# Altium schematic symbol library PCEIOT.SCHLIB: 87 symbols (part 1 of 2)
Pins are listed as number, name and electrical type; pins without a type are passive.

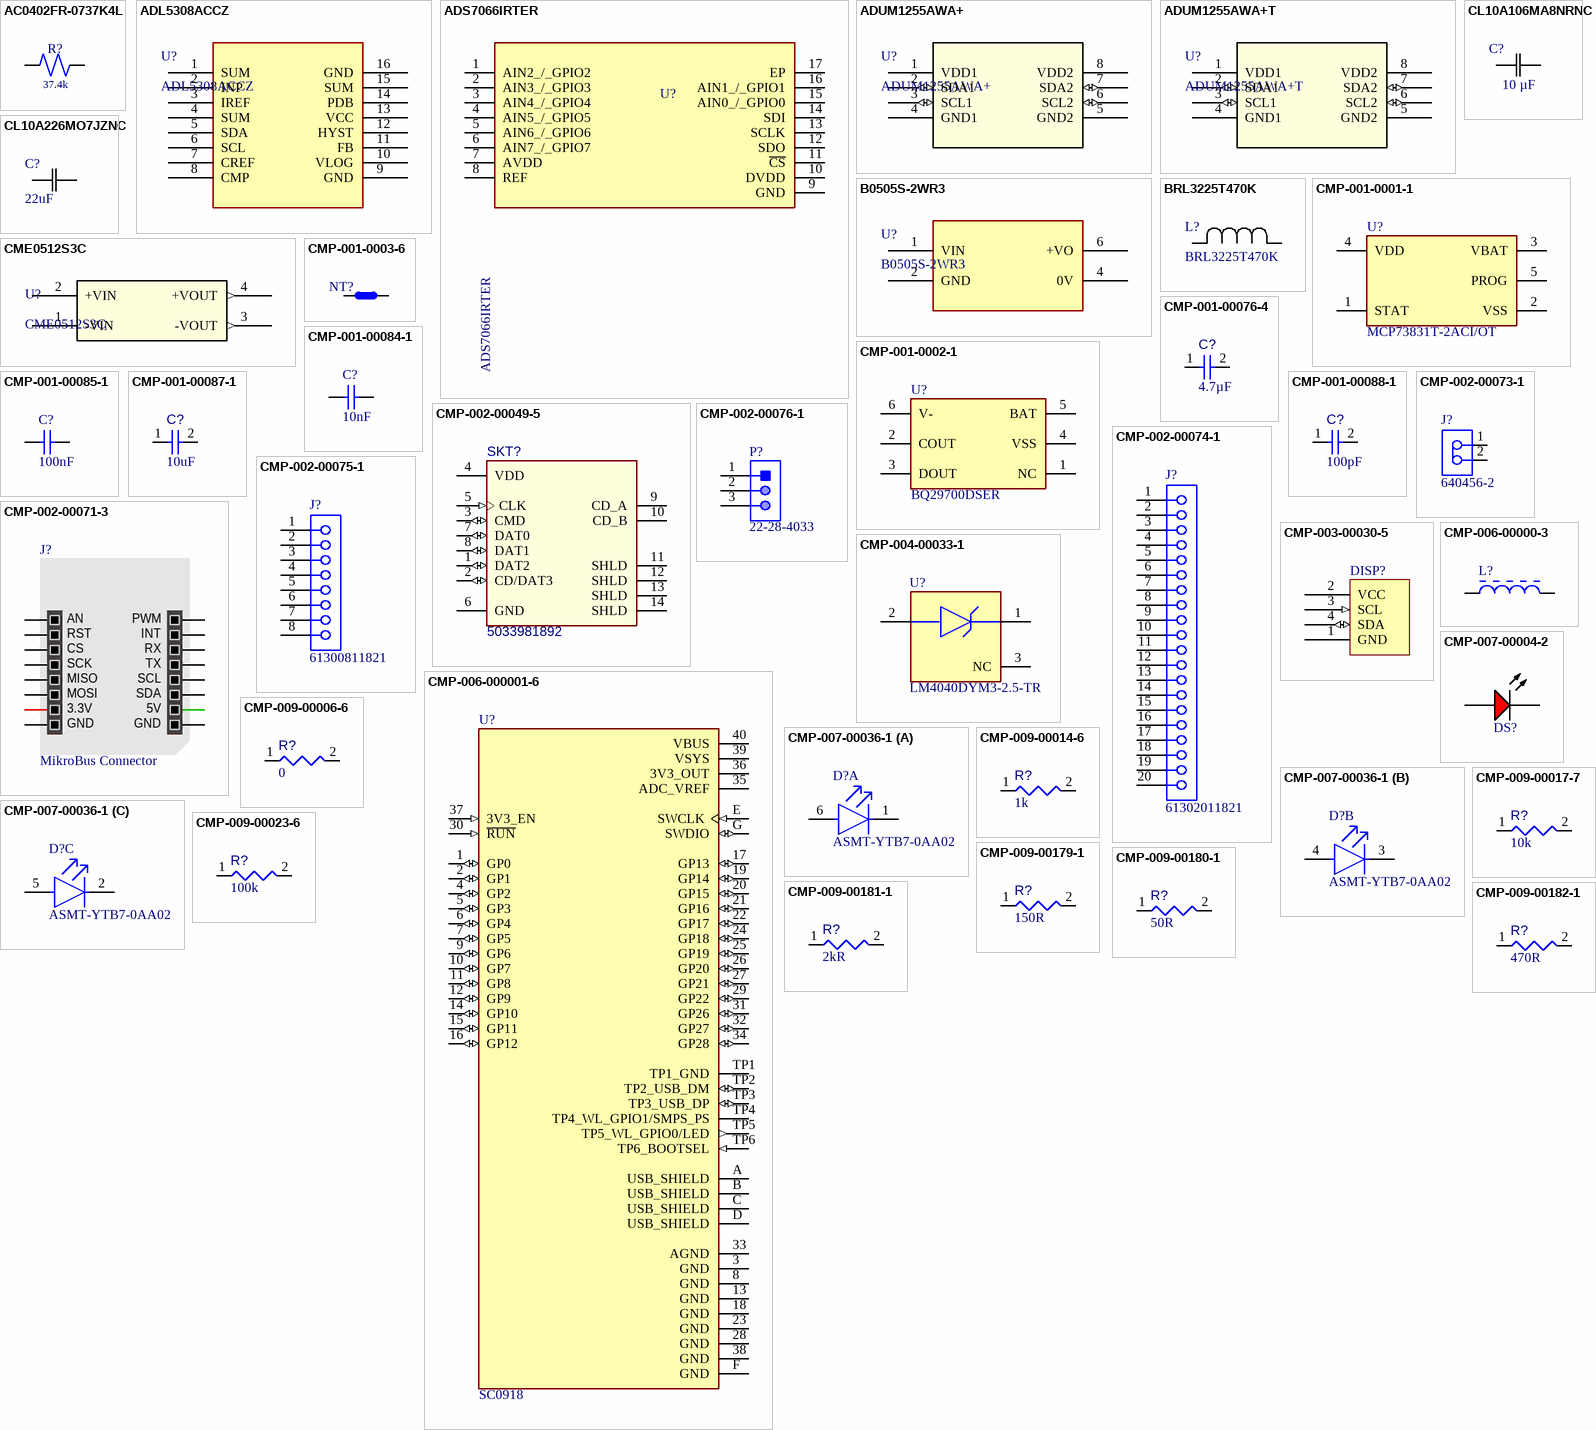
[diagram p0: symbols AC0402FR-0737K4L to CMP-009-00182-1]

## AC0402FR-0737K4L
designator R?  value 37.4k  (hidden comment: AC0402FR-0737K4L)
37.4 kOhms ±1% 0.063W, 1/16W Chip Resistor 0402 (1005 Metric) Automotive AEC-Q200, Moisture Resistant Thick Film; Manufacturer_Name: Yageo; Package: None; Price: None; Manufacturer_Part_Number: AC0402FR-0737K4L; Availability: Unavailable; Supplier 1: Digikey; Supplier Part Number 1: 13-AC0402FR-0737K4LCT-ND; Datasheet Link: https://yageogroup.com/content/datasheet/asset/file/PYU-AC_51_ROHS_L
footprint RC0402N_YAG
pins: 1, 2

## ADL5308ACCZ
designator U?
Logarithmic Converter, 105Deg C, Lga-Ep Rohs Compliant: Yes |Analog Devices, Inc. ADL5308ACCZ; Supplier: DigiKey; Supplier Part Number: 505-ADL5308ACCZ-ND; Manufacturer_Name: Analog Devices; Manufacturer_Part_Number: ADL5308ACCZ; Category: Integrated Circuits (ICs); ComponentLink1URL: https://octopart.com:443/opatz8j6/c1?t=RA9GQZinOd29-lgehR1mMjPVps_pwNRaRgVV1YHzAIV5tl_XZCUSSAHitgBUBAYOkyHWZwhmuKnJMJd5RxR1VqE6m3xnviegrgL6shNBcrpF4LfPbYQ25RAGHFA1T9s0JOT-tl-QhPVPfLuNoqTz_6GGuiJfIxRC0S7r0DYLo04TjJESfYEQgeF8hwJXvZVADboypZr_g-Ea1XOnqBF-rgke93XuIMELyUETblR1X_UOadx82_PQ_RlLZBBqxzR00efRp-5niCJZslCBmJMmtGL_WYk9XjRWZNLGIjLbjTB1vQWuYu6Ttro&src-supplier=Analog+Devices; ComponentLink1Description: https://octopart.com:443/opatz8j6/c1?t=RA9GQZinOd29-lgehR1mMjPVps_pwNRaRgVV1YHzAIV5tl_XZCUSSAHitgBUBAYOkyHWZwhmuKnJMJd5RxR1VqE6m3xnviegrgL6shNBcrpF4LfPbYQ25RAGHFA1T9s0JOT-tl-QhPVPfLuNoqTz_6GGuiJfIxRC0S7r0DYLo04TjJESfYEQgeF8hwJXvZVADboypZr_g-Ea1XOnqBF-rgke93XuIMELyUETblR1X_UOadx82_PQ_RlLZBBqxzR00efRp-5niCJZslCBmJMmtGL_WYk9XjRWZNLGIjLbjTB1vQWuYu6Ttro&src-supplier=Analog+Devices; ComponentLink2URL: http://sigma.octopart.com:80/conflict_mineral_statement/Analog-Devices-company-33.pdf?src-supplier=Compliance+Statements; ComponentLink2Description: http://sigma.octopart.com:80/conflict_mineral_statement/Analog-Devices-company-33.pdf?src-supplier=Compliance+Statements; ComponentLink3URL: https://octopart.com:443/opatz8j6/c1?t=vRyEE9f1knuZsXfZ1EXV0igJkx_-mJPvDe2PRj94G0bMKfSINrZLJy9UxvHag1Ev7-JZTv2yES3irMYFchBWTpWzSwFH9zvLS0b9JOrPs9Pp2SMp_5VkKg4D-b9XM9N4Wk1jNVgkSgkhW8YH7ZyvkiIcKE_oeD_Hqil2BcqMABFddqLYAoPEQj49TJ_q7pMpzWSP-EVr2GWpI1kmAhJOGILngaZVyGxqQjwZ-ZoOI0z0mJCfXwlyMjB28ReNlNurs-8EToiXecBFaJGtKdUbF4KCBm4bpE5gucx16B8aD2Bl3eu5--byB1E&src-supplier=Compliance+Statements; ComponentLink3Description: https://octopart.com:443/opatz8j6/c1?t=vRyEE9f1knuZsXfZ1EXV0igJkx_-mJPvDe2PRj94G0bMKfSINrZLJy9UxvHag1Ev7-JZTv2yES3irMYFchBWTpWzSwFH9zvLS0b9JOrPs9Pp2SMp_5VkKg4D-b9XM9N4Wk1jNVgkSgkhW8YH7ZyvkiIcKE_oeD_Hqil2BcqMABFddqLYAoPEQj49TJ_q7pMpzWSP-EVr2GWpI1kmAhJOGILngaZVyGxqQjwZ-ZoOI0z0mJCfXwlyMjB28ReNlNurs-8EToiXecBFaJGtKdUbF4KCBm4bpE5gucx16B8aD2Bl3eu5--byB1E&src-supplier=Compliance+Statements; Supplier 1: DigiKey; Supplier Part Number 1: 505-ADL5308ACCZ-ND; Datasheet Link: https://www.analog.com/media/en/technical-documentation/data-sheets/adl5308.pdf; Value: ADL5308ACCZ
footprint CC-14-4_ADI
pins: 1 SUM, 2 INP, 3 IREF, 4 SUM, 5 SDA, 6 SCL, 7 CREF, 8 CMP, 9 GND, 10 VLOG, 11 FB, 12 HYST, 13 VCC, 14 PDB, 15 SUM, 16 GND

## ADS7066IRTER
designator U?
Analog to Digital Converters - ADC Eight-channel, 250-kSPS, 16-bit analog-to-digital converter with internal reference, GPIOs and SPI 16-WQFN -40 to 125; Manufacturer_Name: Texas Instruments; Geometry.Height: 0.8mm; Manufacturer_Part_Number: ADS7066IRTER; Mouser Part Number: 595-ADS7066IRTER; Mouser Price/Stock: https://www.mouser.co.uk/ProductDetail/Texas-Instruments/ADS7066IRTER?qs=ST9lo4GX8V1NXvZuWWBhPA%3D%3D; Arrow Part Number: ADS7066IRTER; Arrow Price/Stock: https://www.arrow.com/en/products/ads7066irter/texas-instruments.html?utm_currency=USD&region=nac; Datasheet Link: https://www.ti.com/lit/ds/symlink/ads7066.pdf?ts=1708383444470&ref_url=https%253A%252F%252Fwww.ti.com%252Fproduct%252FADS7066%253Futm_source%253Dgoogle%2526utm_medium%253Dcpc%2526utm_campaign%253Dasc-null-null-GPN_EN-cpc-pf-google-wwe%2526utm_content%253D; Supplier 1: Digikey; Supplier Part Number 1: 296-ADS7066IRTERCT-ND; Value: ADS7066IRTER
footprint QFN50P300X300X80-17N-D
pins: 1 AIN2_/_GPIO2, 2 AIN3_/_GPIO3, 3 AIN4_/_GPIO4, 4 AIN5_/_GPIO5, 5 AIN6_/_GPIO6, 6 AIN7_/_GPIO7, 7 AVDD, 8 REF, 9 GND, 10 DVDD, 11 ~{CS}, 12 SDO, 13 SCLK, 14 SDI, 15 AIN0_/_GPIO0, 16 AIN1_/_GPIO1, 17 EP

## ADUM1255AWA+
designator U?
I2C Isolator with Unidirectional SCL, Idle-bus Hotswap and Low VOL; Manufacturer_Name: Analog Devices Inc; Copyright: Copyright (C) 2025 Ultra Librarian. All rights reserved.; Manufacturer_Part_Number: ADUM1255AWA+; RefDes: RefDes; Type: Type
footprint 21-100415_ADI
pins: 1 VDD1 (power), 2 SDA1 (io), 3 SCL1 (io), 4 GND1 (power), 5 GND2 (power), 6 SCL2 (io), 7 SDA2 (io), 8 VDD2 (power)

## ADUM1255AWA+T
designator U?
I2C Isolator with Unidirectional SCL, Idle-bus Hotswap and Low VOL; Manufacturer_Name: Analog Devices Inc; Copyright: Copyright (C) 2025 Ultra Librarian. All rights reserved.; Manufacturer_Part_Number: ADUM1255AWA+T; RefDes: RefDes; Type: Type
footprint 21-100415_ADI
pins: 1 VDD1 (power), 2 SDA1 (io), 3 SCL1 (io), 4 GND1 (power), 5 GND2 (power), 6 SCL2 (io), 7 SDA2 (io), 8 VDD2 (power)

## B0505S-2WR3
designator U?
Isolated Module DC DC Converter 1 Output 5V 400mA 4.5V - 5.5V Input; Manufacturer_Name: MORNSUN; Type: DC DC Converters; Copyright: Copyright (C) 2026 Ultra Librarian. All rights reserved.; Manufacturer_Part_Number: B0505S-2WR3; RefDes: RefDes; Supplier 1: Digikey; Supplier Part Number 1: 2725-B0505S-2WR3-ND; Value: B0505S-2WR3; Datasheet Link: https://www.mornsun-power.com/html/pdf/B0505S-2WR3.html
footprint B_S-2WR2_MNS
pins: 1 VIN (power), 2 GND (power), 4 0V, 6 +VO (power)

## BRL3225T470K
designator L?
47 µH Semi-Shielded Drum Core, Wirewound Inductor 390 mA 1.2Ohm Max 1210 (3225 Metric); Manufacturer_Name: TAIYO YUDEN; Value: 47uF; Copyright: Copyright (C) 2025 Ultra Librarian. All rights reserved.; Manufacturer_Part_Number: BRL3225T470K; Supplier 1: DigiKey; Supplier Part Number 1: 587-2169-1-ND; Datasheet Link: https://mm.digikey.com/Volume0/opasdata/d220001/medias/docus/610/BRL3225T470K_SS.pdf
footprint IND_TAIYO_BRL3225_TAY
pins: 1, 2

## CL10A106MA8NRNC
designator C?  value 10 µF  (hidden comment: CL10A106MA8NRNC)
10 µF ±20% 25V Ceramic Capacitor X5R 0603 (1608 Metric); Manufacturer_Name: Samsung; Copyright: Copyright (C) 2025 Ultra Librarian. All rights reserved.; Manufacturer_Part_Number: CL10A106MA8NRNC; Supplier 1: DigiKey; Supplier Part Number 1: 1276-1869-1-ND; Datasheet Link: https://mm.digikey.com/Volume0/opasdata/d220001/medias/docus/658/CL10A106MA8NRNC_Spec.pdf
footprint CAPC1608X06N (Chip Capacitor, 2-Leads, Body 1,6x0,8mm (0603), IPC Medium Density)
pins: 1, 2

## CL10A226MO7JZNC
designator C?  value 22uF  (hidden comment: CL10A226MO7JZNC)
22 µF ±20% 16V Ceramic Capacitor X5R 0603 (1608 Metric); Manufacturer_Name: Samsung; Copyright: Copyright (C) 2026 Ultra Librarian. All rights reserved.; Manufacturer_Part_Number: CL10A226MO7JZNC; Supplier 1: DigiKey; Supplier Part Number 1: 1276-7076-1-ND; Datasheet Link: https://mm.digikey.com/Volume0/opasdata/d220001/medias/docus/2139/CL10A226MO7JZNC_Spec.pdf
footprint CAPC1608X06N (Chip Capacitor, 2-Leads, Body 1,6x0,8mm (0603), IPC Medium Density)
pins: 1, 2

## CME0512S3C
designator U?
No Description Available; Manufacturer_Name: Murata; Copyright: Copyright (C) 2026 Ultra Librarian. All rights reserved.; Manufacturer_Part_Number: CME0512S3C; RefDes: RefDes; Type: Type
footprint CME_SC_MUR
pins: 1 -VIN (power), 2 +VIN (power), 3 -VOUT (out), 4 +VOUT (out)

## CMP-001-0001-1
designator U?, comment MCP73831T-2ACI/OT
MCP73831 Series Single-Cell Li-Ion/Li-Polymer Battery Charge Controller SOT-23-5; Manufacturer: Microchip; Output Voltage: 4.2V; Number of Channels: 1; Fault Protection: Over Voltage; Min Supply Voltage: 3.75V; Max Supply Voltage: 6V; Max Power Dissipation: 1.54W; Output Current: 500mA; Voltage Rating: 4.534V; Drain to Source Resistance: 350mR; Min Output Voltage: 4.168V; Max Output Voltage: 4.5V; Mounting Technology: Surface Mount; Number of Outputs: 1; RoHS Compliant: Yes; Weight: 0.00709oz; Length: 3.1mm; Max Operating Temperature: 85°C; Series: -; Case/Package: SOT-23; Radiation Hardening: No; Pins: 5; Packaging: Tape and Reel; Lead Free: Lead Free; Number of Cells: 1; Width: 1.8mm; Height: 1.3mm; Max Charge Current: 500mA; Battery Pack Voltage: 4.2V; Reach SVHC Compliant: No; Termination: SMD/SMT; Min Operating Temperature: -40°C; Manufacturer Part Number: MCP73831T-2ACI/OT; Component Type: Batteries
footprint FP-C04-091-OT-MFG
footprint FP-C04-091-OT-IPC_A
pins: 1 STAT, 2 VSS (power), 3 VBAT (power), 4 VDD (power), 5 PROG

## CMP-001-0002-1
designator U?, comment BQ29700DSER
Li-Ion/Li Polymer Advanced Single-Cell Battery Protector IC Family 6-WSON -40 to 85; Manufacturer: Texas Instruments; Fault Protection: Over Current,Short Circuit,Over/Under Voltage; Operating Supply Voltage: 8V; Number of Cells: 1; Case/Package: WFDFN; Lead Free: Lead Free; Pins: 6; Height: 800um; Packaging: Tape and Reel; Max Operating Temperature: 85°C; Weight: 0.000342oz; Mounting Technology: Surface Mount; Series: -; Contact Plating: Gold; Thickness: 750um; RoHS Compliant: Yes; Package Quantity: 3000; Width: 1.5mm; Length: 1.5mm; Min Operating Temperature: -40°C; Manufacturer Part Number: BQ29700DSER; Component Type: Batteries
footprint FP-DSE0006A-MFG
footprint FP-DSE0006A-IPC_A
footprint FP-DSE0006A-IPC_B
footprint FP-DSE0006A-IPC_C
pins: 1 NC, 2 COUT, 3 DOUT, 4 VSS (power), 5 BAT (power), 6 V-

## CMP-001-0003-6
designator NT?, comment Net Tie  (value not drawn)  (net tie, no BOM)
Net Tie 0.3mm; Component Type: Miscellaneous
footprint New footprint 1
footprint Net Tie-Footprint-1
pins: 1, 2

## CMP-001-00076-4
designator C?, comment value 4.7µF  (hidden comment: Capacitor 4.7µF +/-20% 10V 0603)
Chip Capacitor, 4.7µF +/-20%, 10V, 0603, Thickness 1 mm; Manufacturer: Kyocera AVX; Manufacturer Part Number: 0603ZD475KAT2A; Manufacturer: Yageo; Manufacturer Part Number: CC0603KRX5R6BB475; Manufacturer: KEMET; Manufacturer Part Number: C0603C475K8PAC; Manufacturer Part Number: C0603C475K8PACTU; Manufacturer: TDK; Manufacturer Part Number: C1608X6S1A475K; Manufacturer Part Number: C1608X5R1A475K/0.80; Manufacturer Part Number: C1608X5R1A475K/0.50; Tolerance: 10%; Mounting Technology: SMT; Case/Package: 0603; Pins: 2; Min Operating Temperature: -55°C; Max Operating Temperature: 85°C; Voltage Rating: 10V; Component Type: Capacitors
footprint CAPC0603(1608)100_L (Chip Capacitor, Body 1.6x0.8mm, Height 1.0mm, IPC High Density)
pins: 1, 2

## CMP-001-00084-1
designator C?, comment value 10nF  (hidden comment: VJ0603Y103KXAAC)
Multilayer Ceramic Capacitor, 0.01 uF, 50 V, ± 10%, X7R, 0603 [1608 Metric]; Manufacturer: Vishay Vitramon; Voltage Rating: 50V; Height: 0.92mm; Voltage Rating (DC): 50V; Depth: 0.8mm; Case Code (Imperial): 0603; Packaging: Tape and Reel; Length: 1.6mm; Max Operating Temperature: 125°C; Min Operating Temperature: -55°C; Case/Package: 0603; Pins: 2; Series: VJ; Thickness: 0.036inch; Weight: 7.1E-05oz; Reach SVHC Compliant: Unknown; Termination: SMD/SMT; Package Quantity: 1; RoHS Compliant: Yes; Mounting Technology: Surface Mount; Construction: Flat; Voltage: 50V; Lead Free: Lead Free; Width: 0.031inch; Case Code (Metric): 1608; Tolerance: 10%; Dielectric: X7R; Manufacturer Part Number: VJ0603Y103KXAAC; Component Type: Capacitors
footprint CAPC0603(1608)100_L (Chip Capacitor, Body 1.6x0.8mm, Height 1.0mm, IPC High Density)
pins: 1, 2
1 alternate drawing of the same symbol

## CMP-001-00085-1
designator C?, comment value 100nF  (hidden comment: VJ0603Y104MXJCW1BC)
Multilayer Ceramic Capacitor, 0.1 uF, 16 V, ± 20%, X7R, 0603 [1608 Metric]; Manufacturer: Vishay Vitramon; Dielectric Material: Tantalum; Voltage Rating: 16V; Packaging: Tape and Reel; Min Operating Temperature: -55°C; Case/Package: 0603; Length: 1.6mm; Termination: SMD/SMT; Height: 0.95mm; Mounting Technology: Surface Mount; Width: 0.8mm; Case Code (Imperial): 0603; Construction: Flat; Lead Free: Lead Free; Package Quantity: 4000; Max Operating Temperature: 125°C; Dielectric: X7R; RoHS Compliant: Yes; Depth: 0.8mm; Tolerance: 20%; Series: VJ; Case Code (Metric): 1608; Voltage Rating (DC): 16V; Manufacturer Part Number: VJ0603Y104MXJCW1BC; Component Type: Capacitors
footprint CAPC0603(1608)100_L (Chip Capacitor, Body 1.6x0.8mm, Height 1.0mm, IPC High Density)
pins: 1, 2
1 alternate drawing of the same symbol

## CMP-001-00087-1
designator C?, comment value 10uF  (hidden comment: GRM188R60J106ME47D)
Multilayer Ceramic Capacitor, 10 uF, 6.3 V, ± 20%, X5R, 0603 [1608 Metric]; Manufacturer: Murata; Voltage Rating: 6.3V; Case/Package: 0603; Series: GRM; Mounting Technology: Surface Mount; RoHS Compliant: Yes; Package Quantity: 4000; Case Code (Metric): 1608; Dielectric: X5R; Weight: 0.000222oz; Max Operating Temperature: 85°C; Width: 0.8mm; Termination: Standard; Height: 0.8mm; Tolerance: 20%; Voltage Rating (DC): 6.3V; Length: 1.6mm; Min Operating Temperature: -55°C; Packaging: Cut Tape; Lead Free: Lead Free; Case Code (Imperial): 0603; Manufacturer Part Number: GRM188R60J106ME47D; Component Type: Capacitors
footprint CAPC0603(1608)100_L (Chip Capacitor, Body 1.6x0.8mm, Height 1.0mm, IPC High Density)
pins: 1, 2

## CMP-001-00088-1
designator C?, comment value 100pF  (hidden comment: C0603C101K5GACTU)
Multilayer Ceramic Capacitor, 100 pF, 50 V, ï¿½ 10%, C0G (NP0), 0603 [1608 Metric]; Manufacturer: KEMET; Dissipation Factor: 0.1%; Voltage Rating: 50V; Temperature Coefficient: 30ppm/°C; Min Operating Temperature: -55°C; Dielectric Material: Ceramic; Case/Package: 0603; Depth: 0.8mm; Mounting Technology: Surface Mount,PCB; Tolerance: 10%; Dielectric: C0G; Case Code (Metric): 1608; Height: 0.8mm; RoHS Compliant: Yes; Termination: SMD/SMT; Max Operating Temperature: 125°C; Length: 1.6mm; Packaging: Tape and Reel; Radiation Hardening: No; Voltage Rating (DC): 50V; Package Quantity: 1; Lead Free: Lead Free; Construction: Flat; Lead Pitch: 0.7mm; Series: C; Thickness: 0.034inch; Reach SVHC Compliant: No; Width: 0.031inch; Material: Ceramic; Case Code (Imperial): 0603; Manufacturer Part Number: C0603C101K5GACTU; Component Type: Capacitors
footprint CAPC0603(1608)100_L (Chip Capacitor, Body 1.6x0.8mm, Height 1.0mm, IPC High Density)
pins: 1, 2

## CMP-002-00049-5
designator SKT?, comment 5033981892
Micro SD Card Connector, Pitch 1.1 mm, 8 Position, Height 1.4 mm, -25 to 85 degC, RoHS, Tape and Reel; Manufacturer: Molex; Manufacturer Part Number: 503398-1892; Pins: 14; Component Type: Connectors
footprint MOLX-5033981892_V (CONN, 8-Leads, Body 14.05x13.2mm, Pitch 1.1mm)
pins: 1 DAT2 (io), 2 CD/DAT3 (io), 3 CMD (io), 4 VDD (power), 5 CLK (in), 6 GND, 7 DAT0 (io), 8 DAT1 (io), 9 CD_A, 10 CD_B, 11 SHLD, 12 SHLD, 13 SHLD, 14 SHLD

## CMP-002-00071-3
designator J?, comment MikroBus Connector  (no BOM)
MikroBus shield pico; Component Type: Connectors
footprint New footprint 1
pins: 1 AN, 2 RST, 3 CS, 4 SCK, 5 MISO, 6 MOSI, 7 3.3V, 8 GND, 9 GND, 10 5V, 11 SDA, 12 SCL, 13 TX, 14 RX, 15 INT, 16 PWM

## CMP-002-00073-1
designator J?, comment 640456-2
Connector 250V AC/DC 5A 2P 1 Row PCB - Vertical Mounting Polyester White; Manufacturer: TE Connectivity; Contact Retention: No (Without); PCB Thickness: 0.063inch; Approvals: CSA; Contact Post Length: 3.56mm; Gender: Male; Circuit Application: Signal; Tail Length: 0.14inch; Plating Thickness: 3.81um; Plating: Tin; Mating Connector Lock: Yes (With); PCB Mount Retention: Without; Contact Style: Straight; Number of Positions: 2; Connector System: Wire-to-Board; Pitch: 2.54mm; Connector Type: Connector,Pin,Plug,Header; Voltage Rating: 250V; Termination: Solder; Contact Current Rating: 5A; PCB Mount Alignment: No (Without); Housing Material: Polyester; Contact Material: Copper Alloy; Current Rating: 5A; Mounting Ears: No (Without); Strain Relief: No (Without); Shrouded: No (Without); Min Operating Temperature: -67°C; Orientation: Straight; Series: MTA-100; Panel Mount Retention: No (Without); Package Quantity: 5000; Height: 7.87mm; Length: 7.62mm; PCB Mounting Orientation: Vertical; Flammability Rating: UL94 V-0; Operating Supply Voltage: 250V; Contact Plating: Tin; Mounting Technology: Through Hole; Voltage Rating (AC): 250V; Backwall/Post Interruptions: No (Without); Contact Mating Length: 7.49mm; Color: Beige; Voltage Rating (DC): 250V; Lead Free: Lead Free; Reach SVHC Compliant: Unknown; Sealable: No (Without); Mating Alignment: No (Without); Mating Retention: No (Without); Number of Contacts: 2; Contact Shape: Square; Max Operating Temperature: 221°C; Number of Rows: 1; RoHS Compliant: Yes; Housing Color: Natural; Manufacturer Part Number: 640456-2; Component Type: Connectors
footprint TECO-640456-2_V (HDR, 2-Leads, Body 5.715x5.08mm, Pitch 2.54mm)
pins: 1, 2

## CMP-002-00074-1
designator J?, comment 61302011821  (mechanical)
THT Vertical Socket Header WR-PHD, Pitch 2.54 mm, Single Row, 20 pins; Manufacturer: Wurth Electronics; Contact Resistance: 20mR; Operating Supply Voltage: 250V; Current Rating: 3A; Gender: Female; Orientation: Vertical; Pins: 20; Lead Pitch: 2.54mm; RoHS Compliant: Yes; Manufacturer Part Number: 61302011821; Component Type: Connectors
footprint 61302011821 (Socket Header, Pitch 2.54 mm, THT, Vertical, single row, 20p)
pins: 1, 2, 3, 4, 5, 6, 7, 8, 9, 10, 11, 12, 13, 14, 15, 16, 17, 18, 19, 20

## CMP-002-00075-1
designator J?, comment 61300811821  (mechanical)
Btb Conn, Rcpt, 8Pos, 1Row, 2.54Mm Rohs Compliant: Yes; Manufacturer: Wurth Electronics; Operating Supply Voltage: 250V; Gender: Female; Contact Resistance: 20mR; Current Rating: 3A; Pins: 8; Lead Pitch: 2.54mm; Orientation: Vertical; RoHS Compliant: Yes; Manufacturer Part Number: 61300811821; Component Type: Connectors
footprint 61300811821 (Socket Header, Pitch 2.54 mm, THT, Vertical, single row, 8p)
pins: 1, 2, 3, 4, 5, 6, 7, 8

## CMP-002-00076-1
designator P?, comment 22-28-4033
KK 254 Breakaway Header Vertical 3 Circuits 0.38um Gold Selective Plating Mating Pin 6.09mm; Manufacturer: Molex; Pitch: 2.54mm; Number of Positions: 3; Contact Resistance: 20mR; Max Voltage Rating (AC): 250V; Current Rating: 4A; Gender: Male; Glow Wire Compliant: Non-compliant; RoHS Compliant: Yes; Contact Plating: Gold; Housing Color: Black; Housing Material: Nylon; Contact Mating Length: 0.24inch; Depth: 2.49mm; Number of Circuits: 3; Reach SVHC Compliant: Unknown; Packaging: Bulk; Max Voltage Rating (DC): 250V; Number of Rows: 1; Color: Black; Package Quantity: 1; Orientation: Straight; Number of Contacts: 3; Max Operating Temperature: 75°C; Mounting Technology: Through Hole; Min Operating Temperature: 0°C; Termination: Solder; Radiation Hardening: No; Series: KK® 42375; Contact Material: Brass,Bronze; Flammability Rating: UL94 V-0; Lead Free: Lead Free; Contact Type: Male Pin; Voltage Rating: 250V; Voltage Rating (DC): 250V; Manufacturer Part Number: 22-28-4033; Component Type: Connectors
footprint MOLX-22-28-4033_V (THD, 3-Leads, Body 7.62x2.49mm, Pitch 2.54mm)
pins: 1, 2, 3

## CMP-003-00030-5
designator DISP?, comment 0.96” Display Module  (value not drawn)  (no BOM)
0.96 Inch I2C OLED Display Module; Component Type: Displays
footprint New footprint 1
pins: 1 GND (power), 2 VCC (power), 3 SCL (in), 4 SDA (io)

## CMP-004-00033-1
designator U?, comment LM4040DYM3-2.5-TR
LM4040 Series 2.5 V ±1 % Precision Micropower Shunt Voltage Reference - SOT-23; Manufacturer: Microchip; Output Type: Fixed; Output Voltage: 10V; Max Output Voltage: 2.5V; Cathode Current: 70uA; Temperature Coefficient: 150ppm/°C; Output Current: 15mA; Tolerance: 1%; Supply Current: 500nA; Height: 1.01mm; Reference Type: Shunt; Lead Free: Lead Free; Max Operating Temperature: 85°C; Series: -; Min Output Voltage: 2.5V; Length: 2.92mm; Current Rating: 15mA; Pins: 3; Package Quantity: 3000; Max Output current: 15mA; Min Operating Temperature: -40°C; Packaging: Tape and Reel; Width: 1.3mm; Radiation Hardening: No; Case/Package: SOT-23; Reach SVHC Compliant: No; Reference Voltage: 2.5V; RoHS Compliant: Yes; Mounting Technology: Surface Mount; Manufacturer Part Number: LM4040DYM3-2.5-TR; Component Type: Diodes
footprint FP-SOT23-3LD-PL-1-IPC_A
footprint FP-SOT23-3LD-PL-1-MFG
footprint FP-SOT23-3LD-PL-1-IPC_C
footprint FP-SOT23-3LD-PL-1-IPC_B
pins: 1 +, 2 -, 3 NC

## CMP-006-00000-3
designator L?, comment BLM21PG331SN1D  (value not drawn)
IND, Chip Ferrite Bead, 330 Ohm, +/- 25%, 1.5 A, -55 to 125 degC, 0805 (2012 Metric), Tape and Reel; Manufacturer: Murata; Manufacturer Part Number: LQG15HS15NJ02D; Current Rating: 1.5A; Impedance: 330Ohm; Resistance: 90mohm; Max Operating Temperature: 125°C; Core Material: Ferrite; Case/Package: 0805; Mounting Technology: SM; Datasheet URL: http://psearch.en.murata.com/inductor/product/LQG15HS15NJ02_.pdf; Packaging: TapeandReel; Min Operating Temperature: -55°C; RoHS Compliant: True; Max Current Rating: 1.5A; Datasheet Version: Nov-11; Package Quantity: 4000; Package Reference: 0805; Package Description: 2-Pin Surface Mount Device, Body 2 x1.25 mm; Tolerance: 25%; Component Type: Inductors
footprint INDC2013X105X50ML20T20 (Chip Inductor, 2-Leads, Body 2.2x1.45mm, IPC Low Density)
footprint INDC2013X105X50NL20T20 (Chip Inductor, 2-Leads, Body 2.2x1.45mm, IPC Medium Density)
footprint INDC2013X105X50LL20T20 (Chip Inductor, 2-Leads, Body 2.2x1.45mm, IPC High Density)
pins: 1, 2

## CMP-006-000001-6
designator U?, comment SC0918
Raspberry Pi Pico W RP2040; Pin Count: 53; MP: SC0918; Availability: In Stock; Source: SC0918.SchLib; Purchase-URL: https://pricing.snapeda.com/search/part/SC0918/?ref=eda; Price: None; MF: Raspberry Pi; Component Type: Standard; Design Item ID: SC0918; SnapEDA_Link: https://www.snapeda.com/parts/SC0918/Raspberry+Pi/view-part/?ref=snap; Check_prices: https://www.snapeda.com/parts/SC0918/Raspberry+Pi/view-part/?ref=eda; Value: *; Package: None; Manufacturer: Raspberry Pi; Manufacturer Part Number: SC0918; Component Type: Processors
footprint MODULE_SC0918
pins: 1 GP0 (io), 2 GP1 (io), 3 GND (power), 4 GP2 (io), 5 GP3 (io), 6 GP4 (io), 7 GP5 (io), 8 GND (power), 9 GP6 (io), 10 GP7 (io), 11 GP8 (io), 12 GP9 (io), 13 GND (power), 14 GP10 (io), 15 GP11 (io), 16 GP12 (io), 17 GP13 (io), 18 GND (power), 19 GP14 (io), 20 GP15 (io), 21 GP16 (io), 22 GP17 (io), 23 GND (power), 24 GP18 (io), 25 GP19 (io), 26 GP20 (io), 27 GP21 (io), 28 GND (power), 29 GP22 (io), 30 ~{RUN} (in), 31 GP26 (io), 32 GP27 (io), 33 AGND (power), 34 GP28 (io), 35 ADC_VREF (power), 36 3V3_OUT (power), 37 3V3_EN (in), 38 GND (power), 39 VSYS (power), 40 VBUS (power), A USB_SHIELD (power), B USB_SHIELD (power), C USB_SHIELD (power), D USB_SHIELD (power), E SWCLK (in), F GND (power), G SWDIO (io), TP1 TP1_GND (power), TP2 TP2_USB_DM (io), TP3 TP3_USB_DP (io), TP4 TP4_WL_GPIO1/SMPS_PS, TP5 TP5_WL_GPIO0/LED (out), TP6 TP6_BOOTSEL (in)

## CMP-007-00004-2
designator DS?, comment 19-217/R6C-AL1M2VY/3T  (value not drawn)
Chip LED, Red, 5 V, 25 mA, -40 to 85 degC, 2-Pin SMD (0603), RoHS, Tape and Reel; Manufacturer: Everlight Electronics; Manufacturer: Everlight; Manufacturer Part Number: EL-19-217/R6C-ALM2VY/3T; Manufacturer: Lumex; Manufacturer Part Number: SML-LX0603IW-TR; Forward Voltage: 2.2V; Lens Style: Clear; Package Reference: 0603; Datasheet Version: Rev. 1, 01/2005; Mounting Technology: SM; RoHS Compliant: False; Datasheet URL: https://datasheet.ciiva.com/4688/el-19-217-r6c-al1m2vy-3tpdf-187026-4688713.pdf; Case/Package: 0603; Colour: Red; Manufacturer URL: http://www.everlight.com/; Package Description: 2-Pin Surface Mount Device, Body 1.6 x 0.8 mm; Component Type: LED
footprint EVRL-0603-2_V (SMD, 2-Leads, Body 1.6x0.8mm)
pins: 1 A, 2 K

## CMP-007-00036-1
designator D?, comment ASMT-YTB7-0AA02
LED Tri-Color Blue/Green/Red 469nm/529nm/623nm Chip LED 6-Pin PLCC T/R; Manufacturer: Broadcom Avago; Forward Voltage: 3.1V; Test Current: 20mA; Number of LEDs: 3; Lens Transparency: Diffused; Luminous Intensity: 384mcd; Viewing Angle: 120°; Color: Blue,Green,Red; Reverse Voltage: 4V; Dominant Wavelength: 469nm; Lens Style: Flat,Square,Diffused,Rectangular; Lens Size: 2.3mm; Packaging: Cut Tape; Min Operating Temperature: -40°C; Weight: 40mg; Forward Current: 20mA; Orientation: Top View; Package Quantity: 2000; Case/Package: PLCC; Length: 3mm; Height: 2mm; Max Operating Temperature: 100°C; Contact Plating: Silver; Width: 2.8mm; Reach SVHC Compliant: No; Pins: 6; Series: -; Mounting Technology: Surface Mount; Manufacturer Part Number: ASMT-YTB7-0AA02; Component Type: LED
footprint FP-PLCC-6-MFG
part A pins: 1 Cathode(Blue), 6 Anode(Blue)
part B pins: 3 Cathode(Red), 4 Anode(Red)
part C pins: 2 Cathode(Green), 5 Anode(Green)

## CMP-009-00006-6
designator R?, comment value 0  (hidden comment: Resistor 0R +/- 5% 0603 100 mW)
Chip Resistor, 0 Ohm, 0.1 W, -55 to 155 degC, 0603 (1608 Metric); Manufacturer: Yageo; Manufacturer Part Number: RC0603JR-130RL; Manufacturer: Vishay; Manufacturer Part Number: CRCW0603-0000Z0EA; Manufacturer Part Number: RC0603JR-070RL; Manufacturer: Panasonic; Manufacturer Part Number: ERJ-3GEY0R00V; Power: 100mW; Voltage Rating: 50V; Tolerance: 5%; Mounting Technology: SM; RoHS Compliant: True; Max Operating Temperature: 155°C; Min Operating Temperature: -55°C; Case/Package: 0603; Pins: 2; Component Type: Resistors
footprint RESC0603(1608)_L (Chip Resistor, Body 1.6x0.8mm, IPC High Density)
pins: 1, 2
1 alternate drawing of the same symbol

## CMP-009-00014-6
designator R?, comment value 1k  (hidden comment: Resistor 1k +/-1% 0603 100 mW)
Chip Resistor, 1 KOhm, +/-1%, 0.1 W, -55 to 155 degC, 0603 (1608 Metric); Manufacturer: Yageo; Manufacturer Part Number: RC0603FR-071KL; Manufacturer: Panasonic; Manufacturer Part Number: ERJ-3EKF1001V; Manufacturer Part Number: RC0603FR-131KL; Power: 100mW; Tolerance: 1%; Voltage Rating: 50V; Mounting Technology: SM; Case/Package: 0603; Min Operating Temperature: -55°C; RoHS Compliant: True; Max Operating Temperature: 155°C; Pins: 2; Component Type: Resistors
footprint RESC0603(1608)_L (Chip Resistor, Body 1.6x0.8mm, IPC High Density)
pins: 1, 2
1 alternate drawing of the same symbol

## CMP-009-00017-7
designator R?, comment value 10k  (hidden comment: Resistor 10k +/-1% 0603 100 mW)
Chip Resistor, 10 KOhm, +/- 1%, 01 W, -55 to 155 degC, 0603 (1608 Metric); Manufacturer: Yageo; Manufacturer Part Number: RC0603FR-0710KL; Manufacturer: Panasonic; Manufacturer Part Number: ERJ-3EKF1002V; Manufacturer Part Number: RC0603FR-1310KL; Manufacturer: Vishay; Manufacturer Part Number: CRCW060310K0FKEA; Voltage Rating: 50V; Power: 100mW; RoHS Compliant: True; Min Operating Temperature: -55°C; Pins: 2; Case/Package: 0603; Mounting Technology: SM; Max Operating Temperature: 155°C; Tolerance: 1%; Component Type: Resistors
footprint RESC0603(1608)_L (Chip Resistor, Body 1.6x0.8mm, IPC High Density)
pins: 1, 2
1 alternate drawing of the same symbol

## CMP-009-00023-6
designator R?, comment value 100k  (hidden comment: Resistor 100k +/-1% 0603 100 mW)
Chip Resistor, 100 KOhm, +/- 1%, 0.1 W, -55 to 155 degC, 0603 (1608 Metric); Manufacturer: Yageo; Manufacturer Part Number: RC0603FR-07100KL; Manufacturer: Vishay; Manufacturer Part Number: CRCW0603-100KFKEA; Manufacturer Part Number: RC0603FR-13100KL; Manufacturer: Panasonic; Manufacturer Part Number: ERJ-3EKF1003V; Power: 100mW; Voltage Rating: 50V; Tolerance: 1%; RoHS Compliant: True; Pins: 2; Min Operating Temperature: -55°C; Case/Package: 0603; Max Operating Temperature: 155°C; Mounting Technology: SM; Component Type: Resistors
footprint RESC0603(1608)_L (Chip Resistor, Body 1.6x0.8mm, IPC High Density)
pins: 1, 2
1 alternate drawing of the same symbol

## CMP-009-00179-1
designator R?, comment value 150R  (hidden comment: CRCW0603150RFKEA)
SMD Chip Resistor, 150 Ohm, ± 1%, 100 mW, 0603 [1608 Metric], Thick Film, General Purpose; Manufacturer: Vishay; Voltage Rating (DC): 75V; Power Rating: 100mW; Temperature Coefficient: 100ppm/°C; Reach SVHC Compliant: Unknown; Height: 0.45mm; Package Quantity: 5000; Technology: THICK FILM; Case Code (Metric): 1608; Weight: 7.1E-05oz; Tolerance: 1%; Max Operating Temperature: 155°C; Military Standard: Not; Series: CRCW; Contact Plating: Tin; Number of Terminations: 2; Ratings: AEC-Q200; Features: Automotive AEC-Q200; Packaging: Tape and Reel; Resistor Type: Thick Film; Construction: Rectangular; Lead Free: Lead Free; Termination: SMD/SMT; Min Operating Temperature: -55°C; Max Power Dissipation: 100mW; Voltage Rating: 75V; Case/Package: 0603; Depth: 0.85mm; Width: 0.85mm; Radiation Hardening: No; Length: 1.55mm; Case Code (Imperial): 0603; RoHS Compliant: Yes; Resistance Tolerance: 1%; Manufacturer Part Number: CRCW0603150RFKEA; Component Type: Resistors
footprint RESC0603(1608)_L (Chip Resistor, Body 1.6x0.8mm, IPC High Density)
pins: 1, 2
1 alternate drawing of the same symbol

## CMP-009-00180-1
designator R?, comment value 50R  (hidden comment: CRCW060350R0FKEA)
SMD Chip Resistor, 50 Ohm, ± 1%, 100 mW, 0603 [1608 Metric], Thick Film, General Purpose; Manufacturer: Vishay Dale; Voltage Rating (DC): 75V; Temperature Coefficient: 100ppm/°C; Max Power Dissipation: 100mW; Termination: SMD/SMT; Height: 0.45mm; Features: Automotive AEC-Q200; Package Quantity: 5000; Max Operating Temperature: 155°C; Pins: 2; Resistance Tolerance: 1%; Depth: 0.85mm; Width: 0.85mm; Contact Plating: Tin; RoHS Compliant: Yes; Case Code (Metric): 1608; Length: 1.55mm; Radiation Hardening: No; Resistor Type: Thick Film; Min Operating Temperature: -55°C; Tolerance: 1%; Reach SVHC Compliant: No; Number of Terminations: 2; Weight: 7.1E-05oz; Packaging: Tape and Reel; Power Rating: 100mW; Case Code (Imperial): 0603; Technology: THICK FILM; Voltage Rating: 75V; Lead Free: Lead Free; Series: CRCW; Case/Package: 0603; Manufacturer Part Number: CRCW060350R0FKEA; Component Type: Resistors
footprint RESC0603(1608)_L (Chip Resistor, Body 1.6x0.8mm, IPC High Density)
pins: 1, 2
1 alternate drawing of the same symbol

## CMP-009-00181-1
designator R?, comment value 2kR  (hidden comment: ERJ-3EKF2001V)
SMD Chip Resistor, 2 kOhm, ï¿½ 1%, 100 mW, 0603 [1608 Metric], Thick Film, Precision; Manufacturer: Panasonic; Power Rating: 100mW; Temperature Coefficient: 100ppm/°C; Voltage Rating: 75V; Voltage Rating (DC): 50V; Construction: Rectangular; Tolerance: 1%; Case Code (Imperial): 0603; Contact Plating: Tin; Packaging: Tape and Reel; Width: 0.8mm; Length: 1.6mm; Lead Free: Lead Free; Max Operating Temperature: 155°C; Number of Terminations: 2; Features: Automotive AEC-Q200; Min Operating Temperature: -55°C; Termination: SMD/SMT; Case/Package: 0603; Max Power Dissipation: 100mW; Reach SVHC Compliant: No; Radiation Hardening: No; RoHS Compliant: Yes; Resistance Tolerance: 1%; Pins: 2; Series: ERJ; Case Code (Metric): 1608; Mounting Technology: Surface Mount; Height: 0.022inch; Military Standard: Not; Depth: 0.8mm; Package Quantity: 1; Resistor Type: Thick Film; Manufacturer Part Number: ERJ-3EKF2001V; Component Type: Resistors
footprint RESC0603(1608)_L (Chip Resistor, Body 1.6x0.8mm, IPC High Density)
pins: 1, 2
1 alternate drawing of the same symbol

## CMP-009-00182-1
designator R?, comment value 470R  (hidden comment: CRCW0603470RJNEA)
Res Thick Film 0603 470 Ohm 5% 0.1W(1/10W) ±200ppm/°C Pad SMD Automotive T/R; Manufacturer: Vishay; Max Power Dissipation: 100mW; Working Voltage: 75V; Case Code (Metric): 1608; Case Code (Imperial): 0603; Width: 0.85mm; Series: CRCW; Max Operating Temperature: 155°C; Features: Automotive AEC-Q200; Height: 0.45mm; Technology: THICK FILM; Power Rating: 100mW; Depth: 0.85mm; Min Operating Temperature: -55°C; Weight: 7.1E-05oz; RoHS Compliant: Yes; Number of Terminations: 2; Voltage Rating: 75V; Ratings: AEC-Q200; Case/Package: 0603; Contact Plating: Tin; Radiation Hardening: No; Termination: SMD/SMT; Tolerance: 5%; Construction: Rectangular; Package Quantity: 5000; Reach SVHC Compliant: Unknown; Length: 1.55mm; Resistor Type: Thick Film; Lead Free: Lead Free; Temperature Coefficient: 200ppm/°C; Resistance Tolerance: 5%; Packaging: Tape and Reel; Military Standard: Not; Manufacturer Part Number: CRCW0603470RJNEA; Component Type: Resistors
footprint RESC0603(1608)_L (Chip Resistor, Body 1.6x0.8mm, IPC High Density)
pins: 1, 2
1 alternate drawing of the same symbol

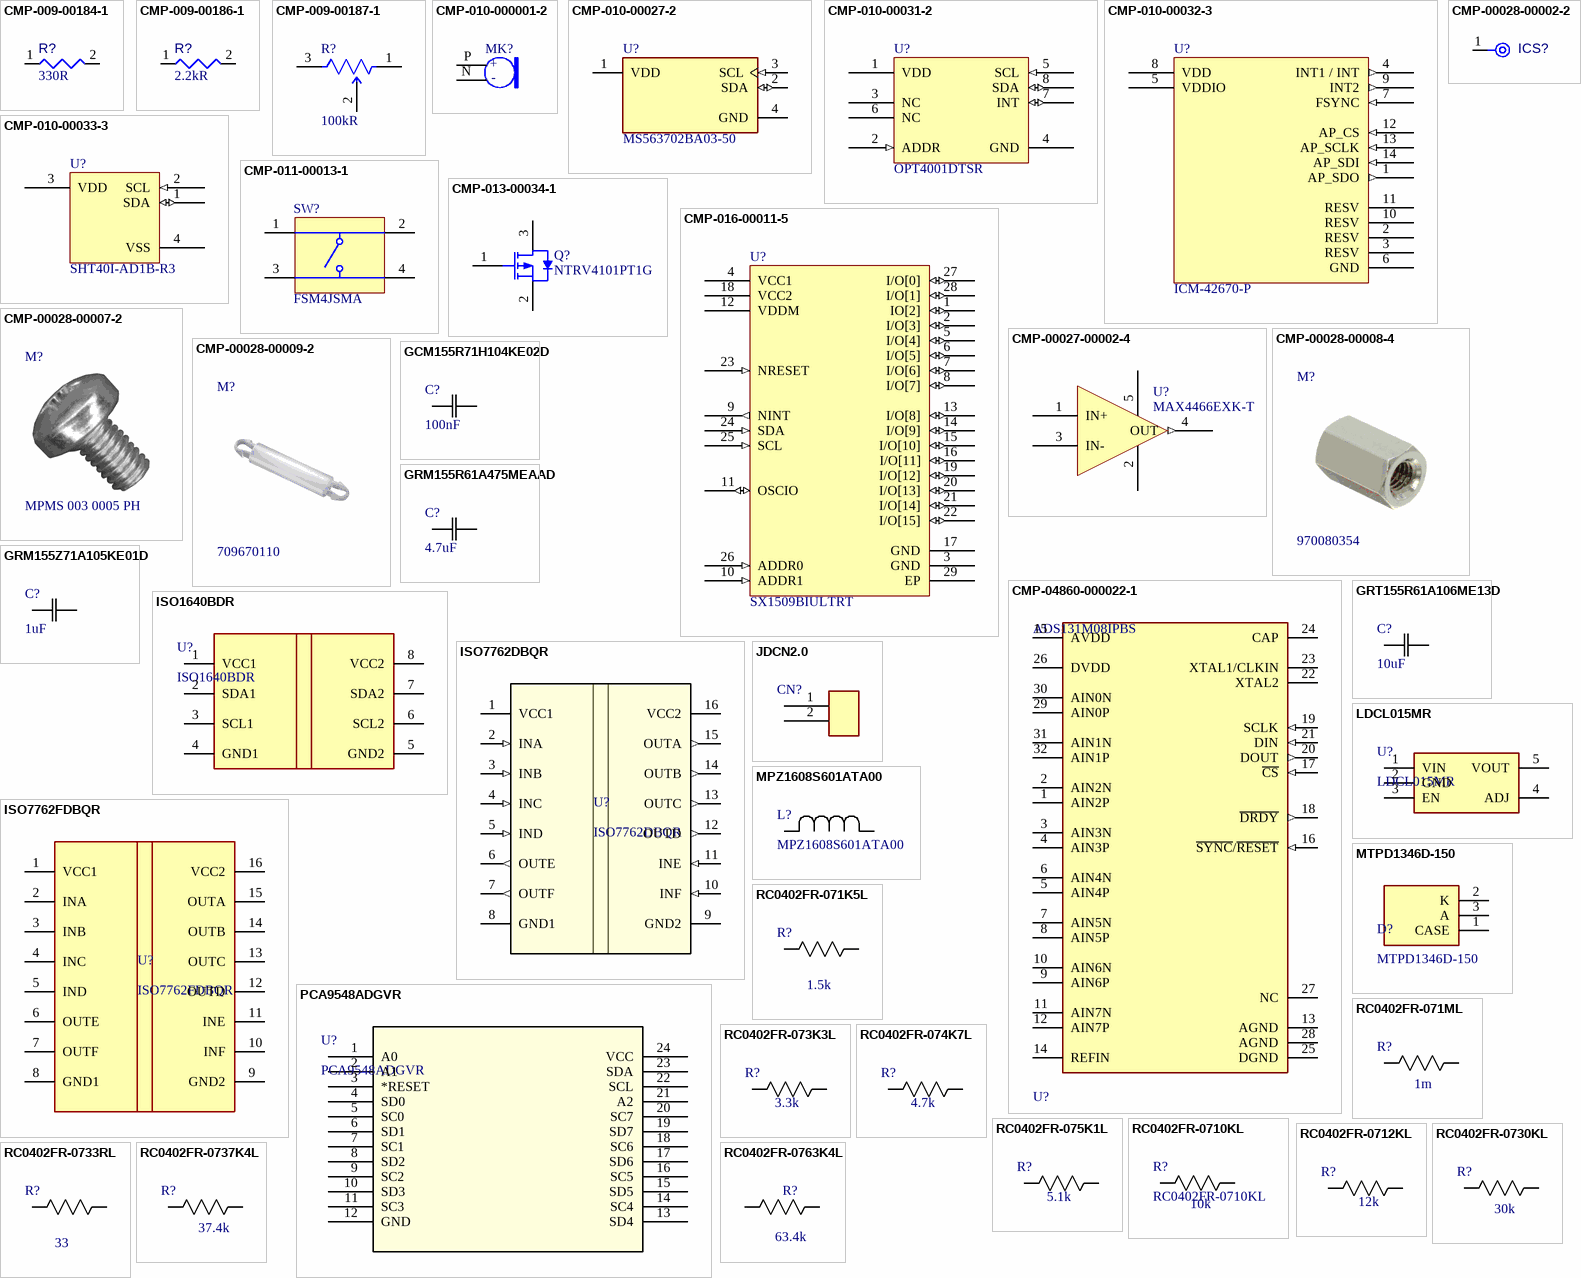
[diagram p1: symbols CMP-009-00184-1 to RC0402FR-0763K4L]

## CMP-009-00184-1
designator R?, comment value 330R  (hidden comment: ERJ-3EKF3300V)
SMD Chip Resistor, 330 Ohm, ± 1%, 100 mW, 0603 [1608 Metric], Thick Film, Precision; Manufacturer: Panasonic; Current Rating: 500mA; Voltage Rating (DC): 75V; Power Rating: 100mW; Gender: Male; Temperature Coefficient: 100ppm/°C; Termination: SMD/SMT; Construction: Rectangular; Contact Plating: Tin; Resistor Type: Thick Film; Features: Automotive AEC-Q200; Max Operating Temperature: 155°C; Weight: 7.1E-05oz; Package Quantity: 5000; Lead Pitch: 1.1mm; Radiation Hardening: No; Lead Free: Lead Free; Min Operating Temperature: -55°C; Reach SVHC Compliant: No; Pins: 2; Number of Terminations: 2; Width: 0.8mm; RoHS Compliant: Yes; Depth: 0.8mm; Packaging: Tape and Reel; Voltage Rating: 75V; Mounting Technology: Surface Mount; Case Code (Metric): 1608; Resistance Tolerance: 1%; Tolerance: 1%; Case Code (Imperial): 0603; Length: 1.6mm; Height: 0.45mm; Military Standard: Not; Series: ERJ; Max Power Dissipation: 100mW; Case/Package: 0603; Contact Material: Copper; Manufacturer Part Number: ERJ-3EKF3300V; Component Type: Resistors
footprint RESC0603(1608)_L (Chip Resistor, Body 1.6x0.8mm, IPC High Density)
pins: 1, 2
1 alternate drawing of the same symbol

## CMP-009-00186-1
designator R?, comment value 2.2kR  (hidden comment: CRCW06032K20FKEA)
SMD Chip Resistor, 2.2 kOhm, ± 1%, 100 mW, 0603 [1608 Metric], Thick Film, General Purpose; Manufacturer: Vishay; Voltage Rating (DC): 75V; Max Power Dissipation: 100mW; Temperature Coefficient: 100ppm/°C; Depth: 0.85mm; Height: 0.45mm; Contact Plating: Tin; Resistance Tolerance: 1%; Ratings: AEC-Q200; Weight: 7.1E-05oz; Series: CRCW; Case Code (Imperial): 0603; Construction: Rectangular; Width: 0.033inch; Reach SVHC Compliant: Unknown; Case Code (Metric): 1608; Resistor Type: Thick Film; Packaging: Tape and Reel; Case/Package: 0603; Package Quantity: 10; RoHS Compliant: Yes; Lead Free: Lead Free; Military Standard: Not; Termination: SMD/SMT; Tolerance: 1%; Technology: THICK FILM; Max Operating Temperature: 155°C; Voltage Rating: 75V; Power Rating: 100mW; Length: 1.55mm; Number of Terminations: 2; Radiation Hardening: No; Min Operating Temperature: -55°C; Features: Automotive AEC-Q200; Manufacturer Part Number: CRCW06032K20FKEA; Component Type: Resistors
footprint RESC0603(1608)_L (Chip Resistor, Body 1.6x0.8mm, IPC High Density)
pins: 1, 2
1 alternate drawing of the same symbol

## CMP-009-00187-1
designator R?, comment value 100kR  (hidden comment: TC33X-2-104E)
Cermet trimmer potentiometer, 100 kΩ, 0.1 W, SMD, on top, TC33X-2-104E; Manufacturer: Bourns; Resistance Tolerance: 25%; Voltage Rating (DC): 50V; Power Rating: 100mW; Temperature Coefficient: 250ppm/°C; Number of Turns: 1; Mounting Technology: Surface Mount; Pins: 2; Resistor Type: Carbon,Cermet; Tolerance: 25%; Min Operating Temperature: -40°C; Radiation Hardening: No; Length: 0.15inch; Max Operating Temperature: 100°C; Height: 0.047inch; RoHS Compliant: Yes; Max Power Dissipation: 100mW; Depth: 3.8mm; Reach SVHC Compliant: No; Military Standard: Not; Series: TC33; Width: 0.118inch; Weight: 29.4mg; Termination: Foot Print; Package Quantity: 1; Packaging: Tape and Reel; Manufacturer Part Number: TC33X-2-104E; Component Type: Resistors
footprint FP-TC33X-2-MFG
pins: 1 CCW, 2 WIPER, 3 CW

## CMP-010-000001-2
designator MK?, comment CMEJ-0415-42-LP  (value not drawn)
4.0 mm, Omnidirectional, PCB Mount, 2.0 Vdc, Elecret Condenser Microphone; Manufacturer: CUI Devices; Frequency: 100Hz; Shape: Circular; Operating Supply Current: 500uA; Voltage Rating: 2V; Output Type: Analog; Clock Frequency: 10kHz; MF: {'manufacturer': u'CUI'}; Value: *; Termination: PC Pins; Availability: Unavailable; Width: 4mm; Design Item ID: CMEJ-0415-42-LP; Series: CMEJ; Direction: Omnidirectional; Pin Count: 2; Price: None; Component Type: Standard; Package: None; MP: CMEJ-0415-42-LP; Operating Supply Voltage: 2V; Length: 4mm; Height: 1.5mm; Source: CMEJ-0415-42-LP.SchLib; Manufacturer Part Number: CMEJ-0415-42-LP; Component Type: Audio
footprint MIC_CMEJ-0415-42-LP
pins: N GND, P OUTPUT
text: +; -

## CMP-010-00027-2
designator U?, comment MS563702BA03-50
Pressure Sensor, Barometric, 300 mbar, 1200 mbar, QFN, 8, -40 C; Manufacturer: Measurement Specialties; Manufacturer: TE Connectivity; Supply Current: 20.09uA; Min Supply Voltage: 1.8V; Max Supply Voltage: 3.6V; Pins: 8; Lead Free: Lead Free; Min Operating Temperature: -40°C; Pressure Type: Barometric; Height: 1mm; Max Operating Temperature: 85°C; Reach SVHC Compliant: No; RoHS Compliant: Yes; Packaging: Cut Tape; Case/Package: QFN; Manufacturer Part Number: MS563702BA03-50; Component Type: Sensors
footprint FP-MS563702BA03-50-MFG
pins: 1 VDD (power), 2 SDA (io), 3 SCL (in), 4 GND (power)

## CMP-010-00031-2
designator U?, comment OPT4001DTSR
High-speed high-precision digital ambient light sensor (ALS) 8-SOT-5X3 -40 to 85; Manufacturer: Texas Instruments; Pins: 8; Height: 600um; Thickness: 550um; Length: 2.1mm; Width: 1.2mm; Manufacturer Part Number: OPT4001DTSR; Component Type: Sensors
footprint SON50P130X60-8N (SON, 8-Leads, Body 2,20x1,30mm, Pitch 0,50mm, IPC Medium Density)
pins: 1 VDD (power) "Device power. Connect to a 1.6-V to 3.6-V supply.", 2 ADDR (in) "Address pin. This pin sets the LSBs of the I2C address.", 3 NC "No Connection", 4 GND (power) "Ground", 5 SCL (in) "I2C clock. Connect with a 10-kΩ resistor to a 1.6-V to 5.5-V supply.", 6 NC "No Connection", 7 INT (io) "Interrupt input/output open-drain. Connect with a 10-kΩ resistor to a 1.6-V to 5.5-V supply.", 8 SDA (io) "I2C data. Connect with a 10-kΩ resistor to a 1.6-V to 5.5-V supply."

## CMP-010-00032-3
designator U?, comment ICM-42670-P
Mems Module, 1.71-3.6 V, Lga-14 Rohs Compliant: Yes; Manufacturer: TDK; Min Operating Temperature: -40°C; Width: 3mm; Length: 2.5mm; Manufacturer Part Number: ICM-42670-P; Component Type: Sensors
footprint QFN50P300X250X81-14N (QFN, 14-Leads, Body 3,00x2,50mm, Pitch 0,50mm, IPC Medium Density)
pins: 1 AP_SDO (out) "AP_SDO: AP SPI serial data output (4-wire mode); AP_AD0: AP I3CSM / I2C slave address LSB", 2 RESV "No Connect or Connect to GND or Connect to VDDIO", 3 RESV "No Connect or Connect to GND or Connect to VDDIO", 4 INT1 / INT (out) "INT1: Interrupt 1 (Note: INT1 can be push-pull or open drain); INT: All interrupts mapped to pin 4", 5 VDDIO (power) "IO power supply voltage", 6 GND (power) "Power supply ground", 7 FSYNC (in) "Frame sync input; Connect to GND if FSYNC not used", 8 VDD (power) "Power supply voltage", 9 INT2 (out) "INT2: Interrupt 2 (Note: INT2 can be push-pull or open drain)", 10 RESV "No Connect or Connect to GND or Connect to VDDIO", 11 RESV "No Connect or Connect to GND or Connect to VDDIO", 12 AP_CS (in) "AP SPI Chip select (AP SPI interface); Connect to VDDIO if using AP I3CSM / I2C interface", 13 AP_SCLK (in) "AP_SCL: AP I3CSM / I2C serial clock; AP_SCLK: AP SPI serial clock", 14 AP_SDI (in) "AP_SDA: AP I3CSM / I2C serial data; AP_SDIO: AP SPI serial data I/O (3-wire mode); AP_SDI: AP SPI serial data input (4-wire mode)"

## CMP-010-00033-3
designator U?, comment SHT40I-AD1B-R3
Humidity And Temperature Sensor; Manufacturer: Sensirion; Manufacturer Part Number: SHT40I-AD1B-R3; Component Type: Sensors
footprint QFN80P150X150X55-4N (QFN, 4-Leads, Body 1,50x1,50mm, Pitch 0,80mm, IPC Medium Density)
pins: 1 SDA (io) "Serial data", 2 SCL (in) "Serial clock", 3 VDD (power) "Supply voltage", 4 VSS (power) "Ground"

## CMP-011-00013-1
designator SW?, comment FSM4JSMA
Switch Tactile OFF (ON) SPST Round Button Gull Wing 0.05A 12VDC 1.57N SMD Loose Piece; Manufacturer: TE Connectivity; Switch Travel: 0.25mm; Mechanical Life: 100000Cycles; Contact Current Rating: 50mA; Actuator Material: Polyphenylene; Voltage Rating: 24V; Illumination Type: Non-Illuminated,Illuminated; Actuator Length: 1.4mm; Actuator Type: Standard; Switch Function: Off-Mom; Insulation Resistance: 100MR; Orientation: Straight; Min Operating Temperature: -35°C; Packaging: Bulk; Termination: Gull Wing; Throw Configuration: SPST; Mounting Technology: Surface Mount; Operating Force: 1.57N; Contact Plating: Silver; Max Operating Temperature: 85°C; Length: 6mm; Voltage Rating (DC): 24V; Current Rating: 50mA; Package Quantity: 750; Width: 6mm; Contact Material: Copper Alloy,Silver; Max Current Rating: 50mA; Depth: 10mm; Series: FSMJSMA; ELV: Compliant; Case/Package: SMD/SMT; Color: Black; Reach SVHC Compliant: Unknown; RoHS Compliant: Yes; Lead Free: Lead Free; Manufacturer Part Number: FSM4JSMA; Component Type: Switches
footprint TECO-FSM4JSMA_V (SMD, 4-Leads, Body 6x6mm, Pitch 4.5mm)
pins: 1, 2, 3, 4

## CMP-013-00034-1
designator Q?, comment NTRV4101PT1G
NTRV4101PT1G P-channel MOSFET Transistor; 1.7 A; 20 V; 3-Pin SOT-23; Manufacturer: ON Semiconductor; Gate to Source Voltage (Vgs): 8V; Continuous Drain Current (ID): 3.2A; Input Capacitance: 675pF; Turn-On Delay Time: 7.5ns; Rds On Max: 85mR; Power Dissipation: 1.25W; Rise Time: 12.6ns; Max Power Dissipation: 420mW; Drain to Source Resistance: 70mR; Element Configuration: Single; Turn-Off Delay Time: 30.2ns; Fall Time: 21ns; Drain to Source Voltage (Vdss): 20V; Number of Elements: 1; Case/Package: SOT-23-3; RoHS Compliant: Yes; Polarity: P-CHANNEL; Height: 1.01mm; Packaging: Tape and Reel; Series: -; Package Quantity: 3000; Max Operating Temperature: 150°C; Length: 3.04mm; Lead Free: Lead Free; Pins: 3; Radiation Hardening: No; Width: 1.4mm; Min Operating Temperature: -55°C; Manufacturer Part Number: NTRV4101PT1G; Component Type: Transistors
footprint ONSC-SOT-23-3-318-08_V (SOT23, 3-Leads, Body 2.92x1.3mm, Pitch 0.95mm)
pins: 1 G, 2 S, 3 D

## CMP-016-00011-5
designator U?, comment SX1509BIULTRT
IC Gpio Expander I2C 16CH 28QFN / I2C Interface 5.5V 28-PIN Qfn-ut Ep T/r; Manufacturer: Semtech; Frequency: 400kHz; Number of I/Os: 16; Lead Free: Lead Free; Series: -; RoHS Compliant: Yes; Interface: I2C; Min Operating Temperature: -40°C; Pins: 28; Mounting Technology: Surface Mount; Case/Package: QFN; Max Operating Temperature: 85°C; Packaging: Cut Tape; Manufacturer Part Number: SX1509BIULTRT; Component Type: Logic
footprint QFN40P410X410X60_HS-29N (QFN, 28-Leads, Body 4,10x4,10mm, Pitch 0,40mm, Thermal Pad 2,65x2,65mm, IPC Medium Density)
pins: 1 IO[2] (io), 2 I/O[3] (io), 3 GND (power), 4 VCC1 (power), 5 I/O[4] (io), 6 I/O[5] (io), 7 I/O[6] (io), 8 I/O[7] (io), 9 NINT (out), 10 ADDR1 (in), 11 OSCIO (io), 12 VDDM (power), 13 I/O[8] (io), 14 I/O[9] (io), 15 I/O[10] (io), 16 I/O[11] (io), 17 GND (power), 18 VCC2 (power), 19 I/O[12] (io), 20 I/O[13] (io), 21 I/O[14] (io), 22 I/O[15] (io), 23 NRESET (in), 24 SDA (in), 25 SCL (in), 26 ADDR0 (in), 27 I/O[0] (io), 28 I/O[1] (io), 29 EP (power)

## CMP-00027-00002-4
designator U?, comment MAX4466EXK-T
Audio Amp Microphone 1-CH Mono Class-AB 5-Pin SC-70 T/R; Manufacturer: Maxim; Gain Bandwidth Product: 600kHz; Max Supply Voltage: 5.5V; Min Supply Voltage: 2.4V; Power Supply Rejection Ratio (PSRR): 112dB; Mounting Technology: Surface Mount; Max Operating Temperature: 85°C; Radiation Hardening: No; RoHS Compliant: No; Packaging: Tape and Reel; Min Operating Temperature: -40°C; Series: -; Manufacturer Part Number: MAX4466EXK-T; Component Type: Audio
footprint SOT65P200X110-5N (SOT23, 5-Leads, Body 2,00x2,00mm, Pitch 0,65mm, IPC Medium Density)
pins: 1 IN+ "Noninverting Amplifier Input", 2 GND (power) "Ground", 3 IN- "Inverting Amplifier Input", 4 OUT (out) "Amplifier Output", 5 VCC (power) "Positive Supply. Bypass with a 0.1µF capacitor to"

## CMP-00028-00002-2
designator ICS?, comment TPAD6R  (value not drawn)  (no BOM)
0.6mm round; Pins: 1; Component Type: Mechanical
footprint TP06R (Testpoint, round, d=0.6mm)
pins: 1 TP

## CMP-00028-00007-2
designator M?, comment MPMS 003 0005 PH  (mechanical)
Mach Screw Pan Head Phillips M3; Manufacturer: Building Fasteners; Lead Free: Contains Lead; Manufacturer Part Number: MPMS 003 0005 PH; Component Type: Mechanical

## CMP-00028-00008-4
designator M?, comment 970080354  (mechanical)
WA-SBRII Brass Spacer Stud Metric Thread int./int.; Manufacturer: Wurth Electronics; Plating: Nickel; Thread Size: M3; Gender: Female, Female; Threaded/Unthreaded: Threaded; Material: Brass; Series: WA-SBRII; Color: Silver; Manufacturer Part Number: 970080354; Component Type: Mechanical

## CMP-00028-00009-2
designator M?, comment 709670110  (mechanical)
Pcb Mounting, Nylon 6.6, 11Mm Rohs Compliant: Yes; Manufacturer: Wurth Electronics; Material: Nylon; Series: WA-SNSN; Manufacturer Part Number: 709670110; Component Type: Mechanical

## CMP-04860-000022-1
designator U?, comment ADS131M08IPBS
8 CHANNEL 24 BIT SIMULTANEOUS SA
footprint FP-PBS0032A-MFG
footprint FP-PBS0032A-IPC_C
footprint FP-PBS0032A-IPC_B
footprint FP-PBS0032A-IPC_A
pins: 1 AIN2P, 2 AIN2N, 3 AIN3N, 4 AIN3P, 5 AIN4P, 6 AIN4N, 7 AIN5N, 8 AIN5P, 9 AIN6P, 10 AIN6N, 11 AIN7N, 12 AIN7P, 13 AGND (power), 14 REFIN, 15 AVDD (power), 16 ~{SYNC}/~{RESET} (in), 17 ~{CS} (in), 18 ~{DRDY} (out), 19 SCLK (in), 20 DOUT (out), 21 DIN (in), 22 XTAL2, 23 XTAL1/CLKIN, 24 CAP, 25 DGND (power), 26 DVDD (power), 27 NC, 28 AGND (power), 29 AIN0P, 30 AIN0N, 31 AIN1N, 32 AIN1P

## GCM155R71H104KE02D
designator C?  value 100nF  (hidden comment: GCM155R71H104KE02D)
0.1 µF ±10% 50V Ceramic Capacitor X7R 0402 (1005 Metric); Manufacturer_Name: Murata; Copyright: Copyright (C) 2026 Ultra Librarian. All rights reserved.; Manufacturer_Part_Number: GCM155R71H104KE02D; Supplier 1: DigiKey; Supplier Part Number 1: 490-10672-1-ND; Datasheet Link: https://search.murata.co.jp/Ceramy/image/img/A01X/G101/ENG/GCM155R71H104KE02-01.pdf
footprint CAPC1005X40N (Chip Capacitor, 2-Leads, Body 1,0x0,50mm (0402), IPC Medium Density)
pins: 1, 2

## GRM155R61A475MEAAD
designator C?  value 4.7uF  (hidden comment: GRM155R61A475MEAAD)
4.7 µF ±20% 10V Ceramic Capacitor X5R 0402 (1005 Metric); Manufacturer_Name: Murata; Copyright: Copyright (C) 2025 Ultra Librarian. All rights reserved.; Manufacturer_Part_Number: GRM155R61A475MEAAD; Supplier 1: DigiKey; Supplier Part Number 1: 490-14306-1-ND
footprint CAPC1005X40N (Chip Capacitor, 2-Leads, Body 1,0x0,50mm (0402), IPC Medium Density)
pins: 1, 2

## GRM155Z71A105KE01D
designator C?  value 1uF  (hidden comment: GRM155Z71A105KE01D)
1 µF ±10% 10V Ceramic Capacitor X7R 0402 (1005 Metric); Manufacturer_Name: Murata; Copyright: Copyright (C) 2025 Ultra Librarian. All rights reserved.; Manufacturer_Part_Number: GRM155Z71A105KE01D; Supplier 1: DigiKey; Supplier Part Number 1: 490-GRM155Z71A105KE01DCT-ND
footprint CAPC1005X40N (Chip Capacitor, 2-Leads, Body 1,0x0,50mm (0402), IPC Medium Density)
pins: 1, 2

## GRT155R61A106ME13D
designator C?  value 10uF  (hidden comment: GRT155R61A106ME13D)
10 µF ±20% 10V Ceramic Capacitor X5R 0402 (1005 Metric); Manufacturer_Name: Murata; Copyright: Copyright (C) 2026 Ultra Librarian. All rights reserved.; Manufacturer_Part_Number: GRT155R61A106ME13D; Supplier 1: DigiKey; Supplier Part Number 1: 490-GRT155R61A106ME13DCT-ND; Datasheet Link: https://search.murata.co.jp/Ceramy/image/img/A01X/G101/ENG/GRT155R61A106ME13-01A.pdf
footprint CAPC1005X40N (Chip Capacitor, 2-Leads, Body 1,0x0,50mm (0402), IPC Medium Density)
pins: 1, 2

## ISO1640BDR
designator U?
Hot-swappable, robust-EMC bidirectional I2C isolator with bidirectional clock 8-SOIC -40 to 125; Manufacturer_Name: Texas Instruments; TYPE: TYPE; RefDes: RefDes; Copyright: Copyright (C) 2026 Ultra Librarian. All rights reserved.; Manufacturer_Part_Number: ISO1640BDR; Supplier 1: DigiKey; Supplier Part Number 1: 296-ISO1640BDRCT-ND; Value: ISO1640BDR; Datasheet Link: https://www.ti.com/lit/ds/symlink/iso1640.pdf
footprint SOIC127P600X175-8N
pins: 1 VCC1, 2 SDA1, 3 SCL1, 4 GND1, 5 GND2, 6 SCL2, 7 SDA2, 8 VCC2

## ISO7762DBQR
designator U?
Robust EMC, six-channel, 4/2, reinforced digital isolator 16-SSOP -55 to 125; Manufacturer_Name: Texas Instruments; TYPE: TYPE; RefDes: RefDes; Copyright: Copyright (C) 2026 Ultra Librarian. All rights reserved.; Manufacturer_Part_Number: ISO7762DBQR
footprint DBQ0016A_N
pins: 1 VCC1 (power), 2 INA (in), 3 INB (in), 4 INC (in), 5 IND (in), 6 OUTE (out), 7 OUTF (out), 8 GND1 (power), 9 GND2 (power), 10 INF (in), 11 INE (in), 12 OUTD (out), 13 OUTC (out), 14 OUTB (out), 15 OUTA (out), 16 VCC2 (power)

## ISO7762FDBQR
designator U?
General Purpose Digital Isolator 3000Vrms 6 Channel 100Mbps 85kV/µs CMTI 16-SSOP (0.154", 3.90mm Width); Manufacturer_Name: Texas Instruments; TYPE: TYPE; RefDes: RefDes; Copyright: Copyright (C) 2025 Ultra Librarian. All rights reserved.; Manufacturer_Part_Number: ISO7762FDBQR; Supplier 1: DigiKey; Supplier Part Number 1: 296-49452-1-ND; Value: ISO7762FDBQR; Datasheet Link: https://www.ti.com/lit/ds/symlink/iso7760.pdf?ts=1712058534565&ref_url=https%253A%252F%252Fwww.ti.com%252Fsitesearch%252Fen-us%252Fdocs%252Funiversalsearch.tsp%253FlangPref%253Den-US%2526searchTerm%253DISO7760DBQR%2526nr%253D9
footprint SOP64P600X175-16N
pins: 1 VCC1, 2 INA, 3 INB, 4 INC, 5 IND, 6 OUTE, 7 OUTF, 8 GND1, 9 GND2, 10 INF, 11 INE, 12 OUTD, 13 OUTC, 14 OUTB, 15 OUTA, 16 VCC2

## JDCN2.0
designator CN?  (value not drawn)
Conector Fonte. JDCN2.0; Manufacturer: *; Datasheet 1: *; Supplier Link 1: *; Package: *; Price 1: *; Value: *; Manufacturer Part Number: *; Supplier Link 2: *; Price 2: *; Datasheet 2: *; Supplier 1: *; Supplier Part Number 1: *; Supplier 2: DigiKey; Supplier Part Number 2: CP-037A-ND
footprint JACK - P4
pins: 1, 2